# EAGLE library part AM4377 (library texas-instruments)
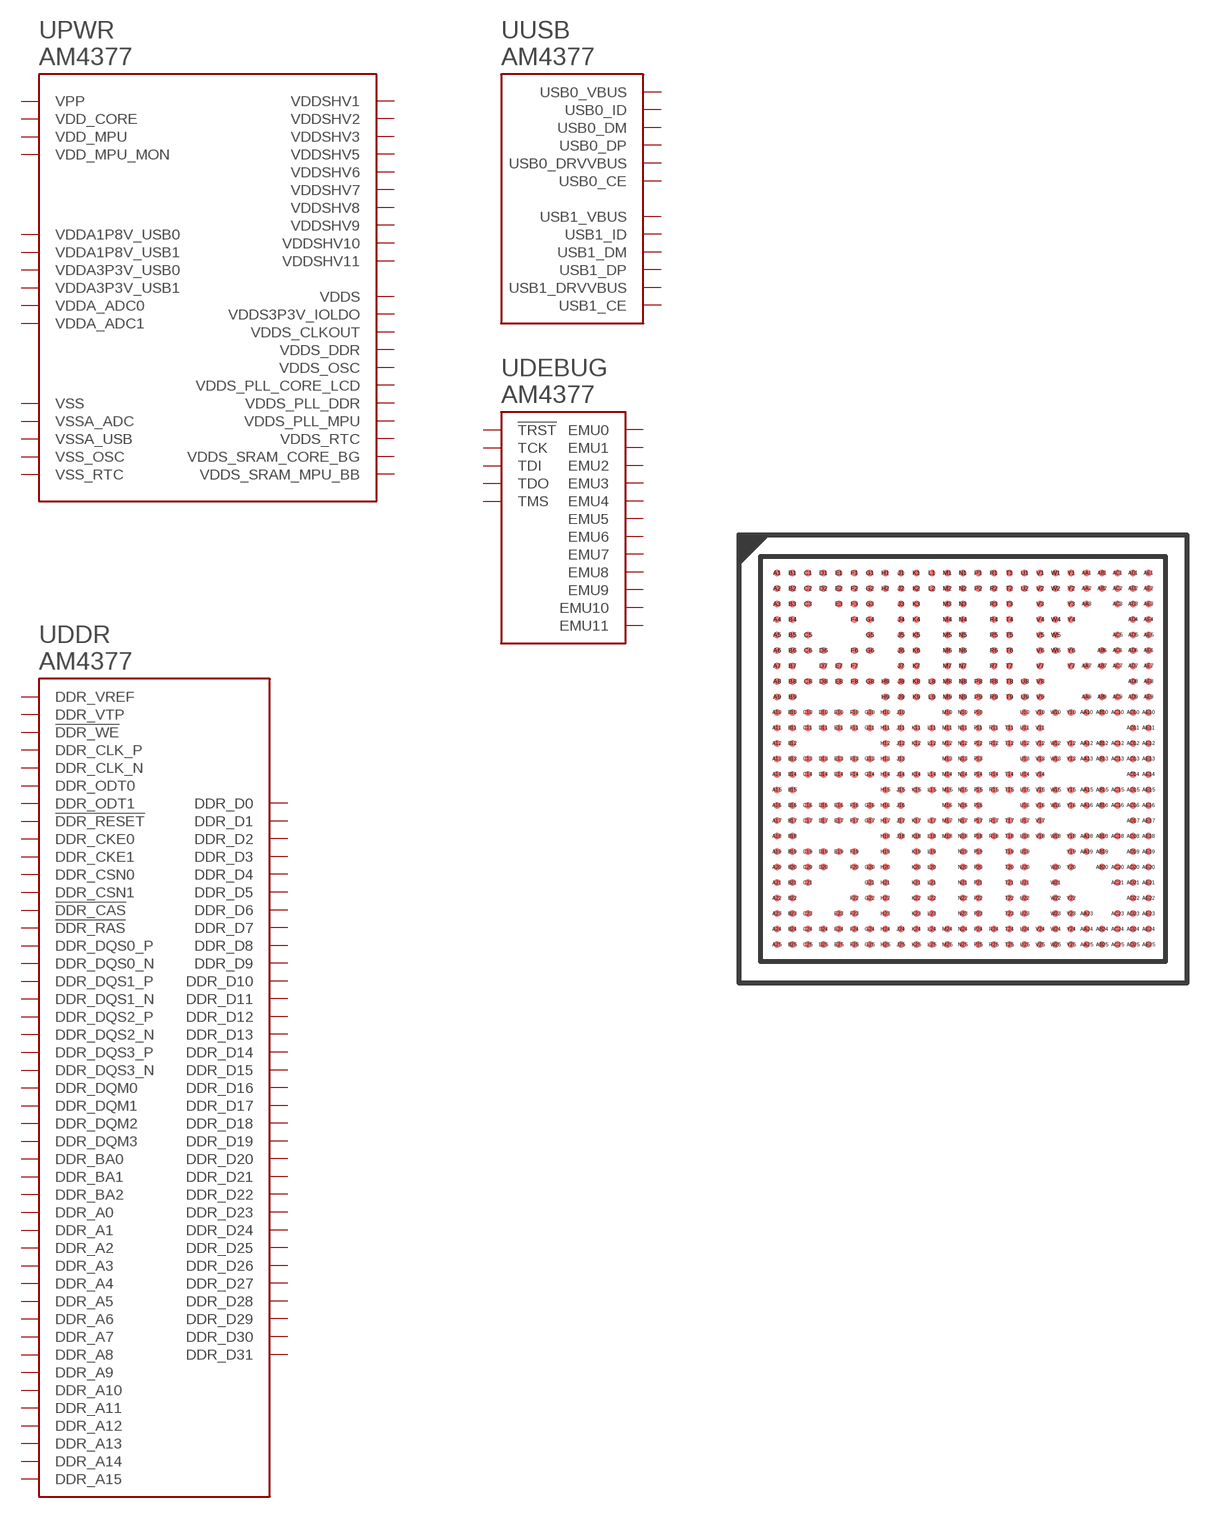
[diagram p14: symbol with the pads of S-PBGA-N491; footprint S-PBGA-N491]

Designator prefix U; gates PWR=AM437X-PWR USB=AM437X-USB DEBUG=AM437X-DEBUG DDR=AM437X-DDR

## AM4377  [S-PBGA-N491]
A1  PWR:VSS  pwr
A25  PWR:VSS  pwr
AA1  DDR:DDR_DQS3_P
AA2  DDR:DDR_DQS3_N
AA3  DDR:DDR_D27
AA19  DEBUG:EMU8  out
AA23  PWR:VSS  pwr
AA24  DEBUG:TDO  out
AA25  DEBUG:TCK  out
AB1  DDR:DDR_D29
AB2  DDR:DDR_D28
AB12  PWR:VDDA_ADC0  pwr
AB19  DEBUG:EMU7  out
AB25  DEBUG:EMU11  out
AC1  DDR:DDR_D30
AC2  DDR:DDR_D31
AC3  DDR:DDR_VTP  in
AC15  PWR:VSSA_ADC  pwr
AC18  DEBUG:EMU4  out
AC20  DEBUG:EMU6  out
AC24  DEBUG:EMU9  out
AD4  PWR:VSS_RTC  pwr
AD5  PWR:VDDS_RTC  pwr
AD8  PWR:VDDS  pwr
AD9  PWR:VDD_CORE  pwr
AD12  PWR:VDDS  pwr
AD13  DEBUG:EMU3  out
AD17  DEBUG:EMU5  out
AD18  DEBUG:EMU11  out
AD24  DEBUG:EMU10  out
AE1  PWR:VSS  pwr
AE7  PWR:VSS  pwr
AE8  PWR:VSS  pwr
AE10  PWR:VSS  pwr
AE17  DEBUG:EMU10  out
AE25  PWR:VSS  pwr
B12  DEBUG:EMU4  out
B24  PWR:VSS_OSC  pwr
C23  PWR:VDDS_OSC  pwr
C24  DEBUG:EMU3  out
D20  PWR:VDD_MPU_MON  pwr
D24  DEBUG:EMU2  out
E1  DDR:DDR_D2
E2  DDR:DDR_D1
E3  DDR:DDR_D0
E17  PWR:VDDS_PLL_MPU  pwr
E23  PWR:VDDS_CLKOUT  pwr
F1  DDR:DDR_DQS0_N
F2  DDR:DDR_DQS0_P
F3  DDR:DDR_D3
F4  DDR:DDR_DQM0  out
F8  PWR:VDDS3P3V_IOLDO  pwr
F13  PWR:VDDS_SRAM_CORE_BG  pwr
F14  PWR:VDDS_SRAM_MPU_BB  pwr
F16  PWR:VDDSHV7  pwr
F20  PWR:VDDS  pwr
F22  PWR:VDDSHV5  pwr
F25  USB:USB1_DRVVBUS  out
G1  DDR:DDR_D7
G2  DDR:DDR_D6
G3  DDR:DDR_D5
G4  DDR:DDR_D4
G5  PWR:VDDS_PLL_DDR  pwr
G6  PWR:VDDS  pwr
G10  PWR:VDDSHV10  pwr
G11  PWR:VDDSHV9  pwr
G13  PWR:VDDSHV8  pwr
G14  PWR:VDDSHV8  pwr
G16  PWR:VDDSHV6  pwr
G17  PWR:VDDSHV6  pwr
G21  USB:USB0_DRVVBUS  out
H1  DDR:DDR_D8
H2  DDR:DDR_DQM1  out
H8  PWR:VDDSHV11  pwr
H9  PWR:VDDSHV11  pwr
H10  PWR:VDDSHV10  pwr
H11  PWR:VDDSHV9  pwr
H12  PWR:VDDS  pwr
H13  PWR:VDD_MPU  pwr
H14  PWR:VDD_MPU  pwr
H15  PWR:VSS  pwr
H16  PWR:VDD_MPU  pwr
H17  PWR:VDDSHV6  pwr
H18  PWR:VSS  pwr
J1  DDR:DDR_DQS1_N
J2  DDR:DDR_DQS1_P
J3  DDR:DDR_D12
J4  DDR:DDR_D11
J5  DDR:DDR_D10
J6  DDR:DDR_D9
J7  PWR:VDDSHV1  pwr
J8  PWR:VDDSHV1  pwr
J9  PWR:VSS  pwr
J10  PWR:VDD_CORE  pwr
J11  PWR:VDD_CORE  pwr
J12  PWR:VSS  pwr
J13  PWR:VDD_MPU  pwr
J14  PWR:VDD_MPU  pwr
J15  PWR:VSS  pwr
J16  PWR:VDD_MPU  pwr
J17  PWR:VSS  pwr
J18  PWR:VDDSHV3  pwr
K1  DDR:DDR_BA0  out
K2  DDR:DDR_BA1  out
K3  DDR:DDR_BA2  out
K4  DDR:DDR_D15
K5  DDR:DDR_D14
K6  DDR:DDR_D13
K7  PWR:VDDS_DDR  pwr
K8  PWR:VDDS_DDR  pwr
K9  PWR:VSS  pwr
K11  PWR:VSS  pwr
K12  PWR:VSS  pwr
K14  PWR:VSS  pwr
K15  PWR:VSS  pwr
K17  PWR:VDDSHV3  pwr
K18  PWR:VDDSHV3  pwr
K19  PWR:VDD_MPU  pwr
K20  PWR:VDD_MPU  pwr
K23  DEBUG:EMU2  out
L1  DDR:DDR_A1  out
L2  DDR:DDR_A2  out
L8  PWR:VSS  pwr
L9  PWR:VSS  pwr
L11  PWR:VSS  pwr
L12  PWR:VDD_CORE  pwr
L14  PWR:VDD_CORE  pwr
L15  PWR:VSS  pwr
L17  PWR:VSS  pwr
L18  PWR:VSS  pwr
L19  PWR:VDD_MPU  pwr
L20  PWR:VDD_MPU  pwr
L24  DEBUG:EMU4  out
M1  DDR:DDR_CLK_N  out
M2  DDR:DDR_CLK_P  out
M3  DDR:DDR_CKE0  out
M4  DDR:DDR_CSN1  out
M5  DDR:DDR_CSN0  out
M6  DDR:DDR_A10  out
M7  PWR:VDDS_DDR  pwr
M8  PWR:VDDS_DDR  pwr
M9  PWR:VDD_CORE  pwr
M10  PWR:VSS  pwr
M11  PWR:VSS  pwr
M12  PWR:VDD_CORE  pwr
M13  PWR:VSS  pwr
M14  PWR:VDD_CORE  pwr
M15  PWR:VSS  pwr
M16  PWR:VSS  pwr
M17  PWR:VDD_MPU  pwr
M18  PWR:VDD_MPU  pwr
M25  DEBUG:EMU3  out
N1  DDR:DDR_A0  out
N2  DDR:!DDR_RAS  out
N3  DDR:!DDR_CAS  out
N4  DDR:!DDR_WE  out
N5  DDR:DDR_A13  out
N6  DDR:DDR_CKE1  out
N7  PWR:VDDS_DDR  pwr
N8  PWR:VDDS_DDR  pwr
N9  PWR:VDD_CORE  pwr
N10  PWR:VSS  pwr
N11  PWR:VSS  pwr
N12  PWR:VSS  pwr
N13  PWR:VSS  pwr
N14  PWR:VSS  pwr
N15  PWR:VSS  pwr
N16  PWR:VDD_CORE  pwr
N17  PWR:VDD_CORE  pwr
N18  PWR:VDDSHV3  pwr
N19  PWR:VDDSHV3  pwr
N21  PWR:VDDS_PLL_CORE_LCD  pwr
N23  DEBUG:EMU0  out
P1  DDR:DDR_A4  out
P2  DDR:DDR_A3  out
P8  PWR:VSS  pwr
P9  PWR:VSS  pwr
P10  PWR:VSS  pwr
P11  PWR:VSS  pwr
P12  PWR:VSS  pwr
P13  PWR:VSS  pwr
P14  PWR:VSS  pwr
P15  PWR:VSS  pwr
P16  PWR:VDD_CORE  pwr
P17  PWR:VDD_CORE  pwr
P18  PWR:VDDSHV3  pwr
P19  PWR:VDDS  pwr
P21  PWR:VPP  pwr
P23  DEBUG:EMU2  out
R1  DDR:DDR_A9  out
R2  DDR:DDR_A8  out
R3  DDR:DDR_A7  out
R4  DDR:DDR_A6  out
R5  DDR:DDR_A5  out
R6  PWR:VDDS_DDR  pwr
R7  PWR:VDDS_DDR  pwr
R8  PWR:VDDS_DDR  pwr
R9  PWR:VDD_CORE  pwr
R11  PWR:VDD_CORE  pwr
R12  PWR:VSS  pwr
R14  PWR:VDD_CORE  pwr
R15  PWR:VSS  pwr
R17  PWR:VSS  pwr
R18  PWR:VSS  pwr
R25  DEBUG:EMU4  out
T1  DDR:!DDR_RESET  out
T2  DDR:DDR_A15  out
T3  DDR:DDR_A14  out
T4  DDR:DDR_A12  out
T5  DDR:DDR_A11  out
T6  DDR:DDR_VREF
T7  PWR:VDDS_DDR  pwr
T8  PWR:VDDS_DDR  pwr
T9  PWR:VDD_CORE  pwr
T11  PWR:VDD_CORE  pwr
T12  PWR:VSS  pwr
T14  PWR:VDD_CORE  pwr
T15  PWR:VSS  pwr
T17  PWR:VSS  pwr
T18  PWR:VDD_CORE  pwr
T19  PWR:VDD_CORE  pwr
T22  DEBUG:EMU3  out
T24  DEBUG:EMU1  out
T25  USB:USB1_VBUS
U1  DDR:DDR_ODT0  out
U2  DDR:DDR_ODT1  out
U8  PWR:VSS  pwr
U9  PWR:VSS  pwr
U10  PWR:VSS  pwr
U11  PWR:VSS  pwr
U12  PWR:VSS  pwr
U13  PWR:VSS  pwr
U14  PWR:VSS  pwr
U15  PWR:VDD_CORE  pwr
U16  PWR:VSS  pwr
U17  PWR:VSS  pwr
U18  PWR:VSS  pwr
U19  PWR:VSS  pwr
U20  PWR:VDDA3P3V_USB1  pwr
U21  PWR:VDDA1P8V_USB1  pwr
U22  USB:USB1_CE
U23  USB:USB0_VBUS
U24  USB:USB0_ID
U25  USB:USB1_ID
V1  DDR:DDR_D20
V2  DDR:DDR_D19
V3  DDR:DDR_D18
V4  DDR:DDR_D17
V5  DDR:DDR_D16
V6  DDR:DDR_DQM2  out
V7  PWR:VDDS_DDR  pwr
V8  PWR:VDDS_DDR  pwr
V9  PWR:VSS  pwr
V10  PWR:VSS  pwr
V11  PWR:VSS  pwr
V12  PWR:VSS  pwr
V13  PWR:VSS  pwr
V14  PWR:VSS  pwr
V15  PWR:VDD_CORE  pwr
V16  PWR:VDDSHV2  pwr
V17  PWR:VDDSHV2  pwr
V18  PWR:VSS  pwr
V24  USB:USB1_DP
V25  USB:USB1_DM
W1  DDR:DDR_DQS2_P
W2  DDR:DDR_DQS2_N
W4  DDR:DDR_D21
W5  DDR:DDR_D22
W6  DDR:DDR_D23
W12  PWR:VDD_CORE  pwr
W13  PWR:VDD_CORE  pwr
W15  PWR:VDDS  pwr
W16  PWR:VDDSHV2  pwr
W18  PWR:VDDSHV3  pwr
W20  PWR:VDDA3P3V_USB0  pwr
W21  PWR:VDDA1P8V_USB0  pwr
W22  USB:USB0_CE
W23  PWR:VSSA_USB  pwr
W24  USB:USB0_DM
W25  USB:USB0_DP
Y1  DDR:DDR_DQM3  out
Y2  DDR:DDR_D24
Y3  DDR:DDR_D25
Y4  DDR:DDR_D26
Y16  PWR:VDDA_ADC1  pwr
Y19  PWR:VDDS  pwr
Y20  DEBUG:TDI  out
Y24  DEBUG:TMS  out
Y25  DEBUG:!TRST  out

## Footprint S-PBGA-N491 (pad centres in mm)
smd 0.3 x 0.3: A1 -7.8,7.8; A2 -7.8,7.15; A3 -7.8,6.5; A4 -7.8,5.85; A5 -7.8,5.2; A6 -7.8,4.55; A7 -7.8,3.9; A8 -7.8,3.25; A9 -7.8,2.6; A10 -7.8,1.95; A11 -7.8,1.3; A12 -7.8,0.65; A13 -7.8,0; A14 -7.8,-0.65; A15 -7.8,-1.3; A16 -7.8,-1.95; A17 -7.8,-2.6; A18 -7.8,-3.25; A19 -7.8,-3.9; A20 -7.8,-4.55; A21 -7.8,-5.2; A22 -7.8,-5.85; A23 -7.8,-6.5; A24 -7.8,-7.15; A25 -7.8,-7.8; AA1 5.2,7.8; AA2 5.2,7.15; AA3 5.2,6.5; AA7 5.2,3.9; AA9 5.2,2.6; AA10 5.2,1.95; AA12 5.2,0.65; AA13 5.2,0; AA15 5.2,-1.3; AA16 5.2,-1.95; AA18 5.2,-3.25; AA19 5.2,-3.9; AA23 5.2,-6.5; AA24 5.2,-7.15; AA25 5.2,-7.8; AB1 5.85,7.8; AB2 5.85,7.15; AB6 5.85,4.55; AB7 5.85,3.9; AB9 5.85,2.6; AB10 5.85,1.95; AB12 5.85,0.65; AB13 5.85,0; AB15 5.85,-1.3; AB16 5.85,-1.95; AB18 5.85,-3.25; AB19 5.85,-3.9; AB20 5.85,-4.55; AB24 5.85,-7.15; AB25 5.85,-7.8; AC1 6.5,7.8; AC2 6.5,7.15; AC3 6.5,6.5; AC5 6.5,5.2; AC6 6.5,4.55; AC7 6.5,3.9; AC9 6.5,2.6; AC10 6.5,1.95; AC12 6.5,0.65; AC13 6.5,0; AC15 6.5,-1.3; AC16 6.5,-1.95; AC18 6.5,-3.25; AC20 6.5,-4.55; AC21 6.5,-5.2; AC23 6.5,-6.5; AC24 6.5,-7.15; AC25 6.5,-7.8; AD1 7.15,7.8; AD2 7.15,7.15; AD3 7.15,6.5; AD4 7.15,5.85; AD5 7.15,5.2; AD6 7.15,4.55; AD7 7.15,3.9; AD8 7.15,3.25; AD9 7.15,2.6; AD10 7.15,1.95; AD11 7.15,1.3; AD12 7.15,0.65; AD13 7.15,0; AD14 7.15,-0.65; AD15 7.15,-1.3; AD16 7.15,-1.95; AD17 7.15,-2.6; AD18 7.15,-3.25; AD19 7.15,-3.9; AD20 7.15,-4.55; AD21 7.15,-5.2; AD22 7.15,-5.85; AD23 7.15,-6.5; AD24 7.15,-7.15; AD25 7.15,-7.8; AE1 7.8,7.8; AE2 7.8,7.15; AE3 7.8,6.5; AE4 7.8,5.85; AE5 7.8,5.2; AE6 7.8,4.55; AE7 7.8,3.9; AE8 7.8,3.25; AE9 7.8,2.6; AE10 7.8,1.95; AE11 7.8,1.3; AE12 7.8,0.65; AE13 7.8,0; AE14 7.8,-0.65; AE15 7.8,-1.3; AE16 7.8,-1.95; AE17 7.8,-2.6; AE18 7.8,-3.25; AE19 7.8,-3.9; AE20 7.8,-4.55; AE21 7.8,-5.2; AE22 7.8,-5.85; AE23 7.8,-6.5; AE24 7.8,-7.15; AE25 7.8,-7.8; B1 -7.15,7.8; B2 -7.15,7.15; B3 -7.15,6.5; B4 -7.15,5.85; B5 -7.15,5.2; B6 -7.15,4.55; B7 -7.15,3.9; B8 -7.15,3.25; B9 -7.15,2.6; B10 -7.15,1.95; B11 -7.15,1.3; B12 -7.15,0.65; B13 -7.15,0; B14 -7.15,-0.65; B15 -7.15,-1.3; B16 -7.15,-1.95; B17 -7.15,-2.6; B18 -7.15,-3.25; B19 -7.15,-3.9; B20 -7.15,-4.55; B21 -7.15,-5.2; B22 -7.15,-5.85; B23 -7.15,-6.5; B24 -7.15,-7.15; B25 -7.15,-7.8; C1 -6.5,7.8; C2 -6.5,7.15; C3 -6.5,6.5; C5 -6.5,5.2; C6 -6.5,4.55; C8 -6.5,3.25; C10 -6.5,1.95; C11 -6.5,1.3; C13 -6.5,0; C14 -6.5,-0.65; C16 -6.5,-1.95; C17 -6.5,-2.6; C19 -6.5,-3.9; C20 -6.5,-4.55; C21 -6.5,-5.2; C23 -6.5,-6.5; C24 -6.5,-7.15; C25 -6.5,-7.8; D1 -5.85,7.8; D2 -5.85,7.15; D6 -5.85,4.55; D7 -5.85,3.9; D8 -5.85,3.25; D10 -5.85,1.95; D11 -5.85,1.3; D13 -5.85,0; D14 -5.85,-0.65; D16 -5.85,-1.95; D17 -5.85,-2.6; D19 -5.85,-3.9; D20 -5.85,-4.55; D24 -5.85,-7.15; D25 -5.85,-7.8; E1 -5.2,7.8; E2 -5.2,7.15; E3 -5.2,6.5; E7 -5.2,3.9; E8 -5.2,3.25; E10 -5.2,1.95; E11 -5.2,1.3; E13 -5.2,0; E14 -5.2,-0.65; E16 -5.2,-1.95; E17 -5.2,-2.6; E19 -5.2,-3.9; E23 -5.2,-6.5; E24 -5.2,-7.15; E25 -5.2,-7.8; F1 -4.55,7.8; F2 -4.55,7.15; F3 -4.55,6.5; F4 -4.55,5.85; F6 -4.55,4.55; F7 -4.55,3.9; F8 -4.55,3.25; F10 -4.55,1.95; F11 -4.55,1.3; F13 -4.55,0; F14 -4.55,-0.65; F16 -4.55,-1.95; F17 -4.55,-2.6; F19 -4.55,-3.9; F20 -4.55,-4.55; F22 -4.55,-5.85; F23 -4.55,-6.5; F24 -4.55,-7.15; F25 -4.55,-7.8; G1 -3.9,7.8; G2 -3.9,7.15; G3 -3.9,6.5; G4 -3.9,5.85; G5 -3.9,5.2; G6 -3.9,4.55; G8 -3.9,3.25; G10 -3.9,1.95; G11 -3.9,1.3; G13 -3.9,0; G14 -3.9,-0.65; G16 -3.9,-1.95; G17 -3.9,-2.6; G20 -3.9,-4.55; G21 -3.9,-5.2; G22 -3.9,-5.85; G24 -3.9,-7.15; G25 -3.9,-7.8; H1 -3.25,7.8; H2 -3.25,7.15; H8 -3.25,3.25; H9 -3.25,2.6; H10 -3.25,1.95; H11 -3.25,1.3; H12 -3.25,0.65; H13 -3.25,0; H14 -3.25,-0.65; H15 -3.25,-1.3; H16 -3.25,-1.95; H17 -3.25,-2.6; H18 -3.25,-3.25; H19 -3.25,-3.9; H20 -3.25,-4.55; H21 -3.25,-5.2; H22 -3.25,-5.85; H23 -3.25,-6.5; H24 -3.25,-7.15; H25 -3.25,-7.8; J1 -2.6,7.8; J2 -2.6,7.15; J3 -2.6,6.5; J4 -2.6,5.85; J5 -2.6,5.2; J6 -2.6,4.55; J7 -2.6,3.9; J8 -2.6,3.25; J9 -2.6,2.6; J10 -2.6,1.95; J11 -2.6,1.3; J12 -2.6,0.65; J13 -2.6,0; J14 -2.6,-0.65; J15 -2.6,-1.3; J16 -2.6,-1.95; J17 -2.6,-2.6; J18 -2.6,-3.25; J24 -2.6,-7.15; J25 -2.6,-7.8; K1 -1.95,7.8; K2 -1.95,7.15; K3 -1.95,6.5; K4 -1.95,5.85; K5 -1.95,5.2; K6 -1.95,4.55; K7 -1.95,3.9; K8 -1.95,3.25; K9 -1.95,2.6; K11 -1.95,1.3; K12 -1.95,0.65; K14 -1.95,-0.65; K15 -1.95,-1.3; K17 -1.95,-2.6; K18 -1.95,-3.25; K19 -1.95,-3.9; K20 -1.95,-4.55; K21 -1.95,-5.2; K22 -1.95,-5.85; K23 -1.95,-6.5; K24 -1.95,-7.15; K25 -1.95,-7.8; L1 -1.3,7.8; L2 -1.3,7.15; L8 -1.3,3.25; L9 -1.3,2.6; L11 -1.3,1.3; L12 -1.3,0.65; L14 -1.3,-0.65; L15 -1.3,-1.3; L17 -1.3,-2.6; L18 -1.3,-3.25; L19 -1.3,-3.9; L20 -1.3,-4.55; L21 -1.3,-5.2; L22 -1.3,-5.85; L23 -1.3,-6.5; L24 -1.3,-7.15; L25 -1.3,-7.8; M1 -0.65,7.8; M2 -0.65,7.15; M3 -0.65,6.5; M4 -0.65,5.85; M5 -0.65,5.2; M6 -0.65,4.55; M7 -0.65,3.9; M8 -0.65,3.25; M9 -0.65,2.6; M10 -0.65,1.95; M11 -0.65,1.3; M12 -0.65,0.65; M13 -0.65,0; M14 -0.65,-0.65; M15 -0.65,-1.3; M16 -0.65,-1.95; M17 -0.65,-2.6; M18 -0.65,-3.25; M24 -0.65,-7.15; M25 -0.65,-7.8; N1 0,7.8; N2 0,7.15; N3 0,6.5; N4 0,5.85; N5 0,5.2; N6 0,4.55; N7 0,3.9; N8 0,3.25; N9 0,2.6; N10 0,1.95; N11 0,1.3; N12 0,0.65; N13 0,0; N14 0,-0.65; N15 0,-1.3; N16 0,-1.95; N17 0,-2.6; N18 0,-3.25; N19 0,-3.9; N20 0,-4.55; N21 0,-5.2; N22 0,-5.85; N23 0,-6.5; N24 0,-7.15; N25 0,-7.8; P1 0.65,7.8; P2 0.65,7.15; P8 0.65,3.25; P9 0.65,2.6; P10 0.65,1.95; P11 0.65,1.3; P12 0.65,0.65; P13 0.65,0; P14 0.65,-0.65; P15 0.65,-1.3; P16 0.65,-1.95; P17 0.65,-2.6; P18 0.65,-3.25; P19 0.65,-3.9; P20 0.65,-4.55; P21 0.65,-5.2; P22 0.65,-5.85; P23 0.65,-6.5; P24 0.65,-7.15; P25 0.65,-7.8; R1 1.3,7.8; R2 1.3,7.15; R3 1.3,6.5; R4 1.3,5.85; R5 1.3,5.2; R6 1.3,4.55; R7 1.3,3.9; R8 1.3,3.25; R9 1.3,2.6; R11 1.3,1.3; R12 1.3,0.65; R14 1.3,-0.65; R15 1.3,-1.3; R17 1.3,-2.6; R18 1.3,-3.25; R24 1.3,-7.15; R25 1.3,-7.8; T1 1.95,7.8; T2 1.95,7.15; T3 1.95,6.5; T4 1.95,5.85; T5 1.95,5.2; T6 1.95,4.55; T7 1.95,3.9; T8 1.95,3.25; T9 1.95,2.6; T11 1.95,1.3; T12 1.95,0.65; T14 1.95,-0.65; T15 1.95,-1.3; T17 1.95,-2.6; T18 1.95,-3.25; T19 1.95,-3.9; T20 1.95,-4.55; T21 1.95,-5.2; T22 1.95,-5.85; T23 1.95,-6.5; T24 1.95,-7.15; T25 1.95,-7.8; U1 2.6,7.8; U2 2.6,7.15; U8 2.6,3.25; U9 2.6,2.6; U10 2.6,1.95; U11 2.6,1.3; U12 2.6,0.65; U13 2.6,0; U14 2.6,-0.65; U15 2.6,-1.3; U16 2.6,-1.95; U17 2.6,-2.6; U18 2.6,-3.25; U19 2.6,-3.9; U20 2.6,-4.55; U21 2.6,-5.2; U22 2.6,-5.85; U23 2.6,-6.5; U24 2.6,-7.15; U25 2.6,-7.8; V1 3.25,7.8; V2 3.25,7.15; V3 3.25,6.5; V4 3.25,5.85; V5 3.25,5.2; V6 3.25,4.55; V7 3.25,3.9; V8 3.25,3.25; V9 3.25,2.6; V10 3.25,1.95; V11 3.25,1.3; V12 3.25,0.65; V13 3.25,0; V14 3.25,-0.65; V15 3.25,-1.3; V16 3.25,-1.95; V17 3.25,-2.6; V18 3.25,-3.25; V24 3.25,-7.15; V25 3.25,-7.8; W1 3.9,7.8; W2 3.9,7.15; W4 3.9,5.85; W5 3.9,5.2; W6 3.9,4.55; W10 3.9,1.95; W12 3.9,0.65; W13 3.9,0; W15 3.9,-1.3; W16 3.9,-1.95; W18 3.9,-3.25; W20 3.9,-4.55; W21 3.9,-5.2; W22 3.9,-5.85; W23 3.9,-6.5; W24 3.9,-7.15; W25 3.9,-7.8; Y1 4.55,7.8; Y2 4.55,7.15; Y3 4.55,6.5; Y4 4.55,5.85; Y6 4.55,4.55; Y7 4.55,3.9; Y10 4.55,1.95; Y12 4.55,0.65; Y13 4.55,0; Y15 4.55,-1.3; Y16 4.55,-1.95; Y18 4.55,-3.25; Y19 4.55,-3.9; Y20 4.55,-4.55; Y22 4.55,-5.85; Y23 4.55,-6.5; Y24 4.55,-7.15; Y25 4.55,-7.8